# Altium footprint library FPGA_breakout_board_v1.PcbLib: 33 footprints (part 1 of 3)
Each footprint in its own frame and in the unit in brackets; x right, y up, seen from the top. Pads: shape width x height; smd on the part's side, far side on the other; paste and mask are expansions set on the pad; w line width, h text height; cw(c..) or ccw(c..) is an arc to the next point about the centre after c.
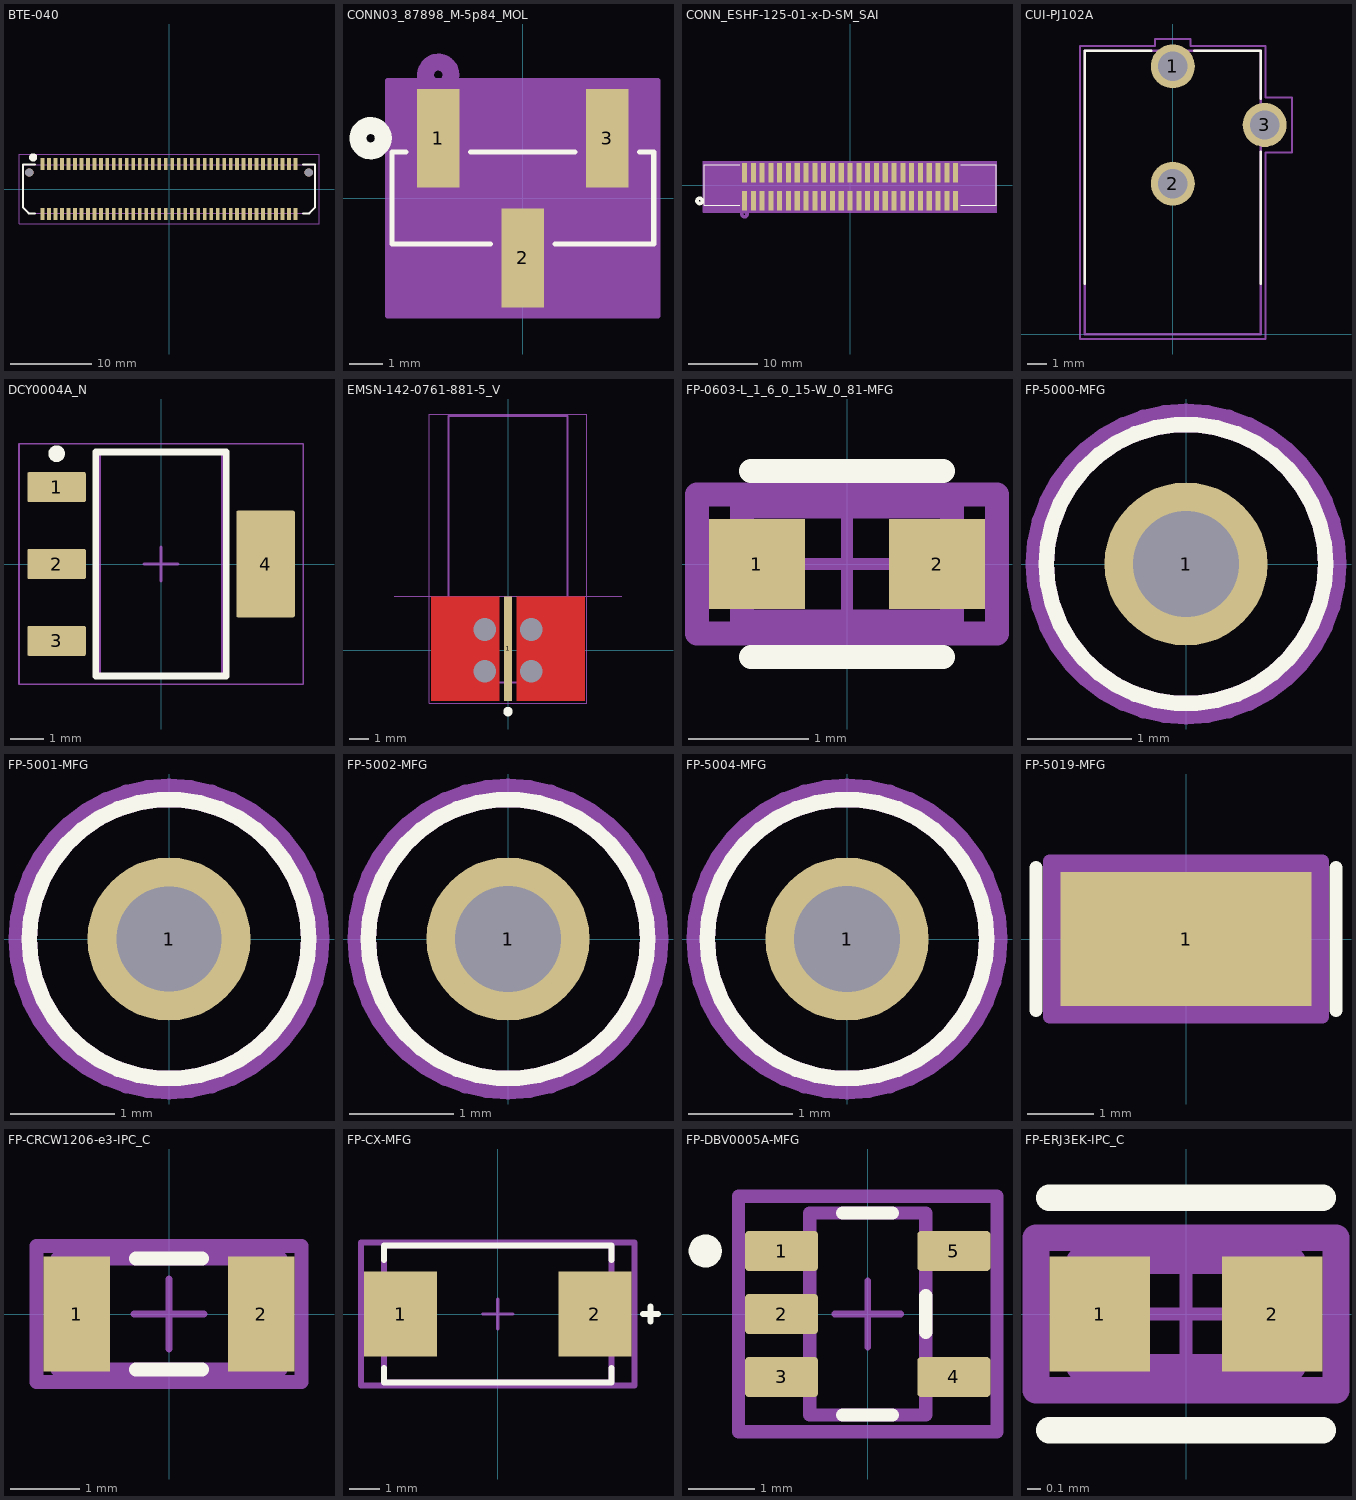
[diagram p0: the footprints below, top view; thin cyan lines are the x and y axes]

## BTE-040 [mm]
pads (82):
  rect 0.46x1.45 smd: 1(-15.6,3.085) 2(-15.6,-3.085) 3(-14.8,3.085) 4(-14.8,-3.085) 5(-14,3.085) 6(-14,-3.085) 7(-13.2,3.085) 8(-13.2,-3.085) 9(-12.4,3.085) 10(-12.4,-3.085) 11(-11.6,3.085) 12(-11.6,-3.085) 13(-10.8,3.085) 14(-10.8,-3.085) 15(-10,3.085) 16(-10,-3.085) 17(-9.2,3.085) 18(-9.2,-3.085) 19(-8.4,3.085) 20(-8.4,-3.085) 21(-7.6,3.085) 22(-7.6,-3.085) 23(-6.8,3.085) 24(-6.8,-3.085) 25(-6,3.085) 26(-6,-3.085) 27(-5.2,3.085) 28(-5.2,-3.085) 29(-4.4,3.085) 30(-4.4,-3.085) 31(-3.6,3.085) 32(-3.6,-3.085) 33(-2.8,3.085) 34(-2.8,-3.085) 35(-2,3.085) 36(-2,-3.085) 37(-1.2,3.085) 38(-1.2,-3.085) 39(-0.4,3.085) 40(-0.4,-3.085) 41(0.4,3.085) 42(0.4,-3.085) 43(1.2,3.085) 44(1.2,-3.085) 45(2,3.085) 46(2,-3.085) 47(2.8,3.085) 48(2.8,-3.085) 49(3.6,3.085) 50(3.6,-3.085) 51(4.4,3.085) 52(4.4,-3.085) 53(5.2,3.085) 54(5.2,-3.085) 55(6,3.085) 56(6,-3.085) 57(6.8,3.085) 58(6.8,-3.085) 59(7.6,3.085) 60(7.6,-3.085) 61(8.4,3.085) 62(8.4,-3.085) 63(9.2,3.085) 64(9.2,-3.085) 65(10,3.085) 66(10,-3.085) 67(10.8,3.085) 68(10.8,-3.085) 69(11.6,3.085) 70(11.6,-3.085) 71(12.4,3.085) 72(12.4,-3.085) 73(13.2,3.085) 74(13.2,-3.085) 75(14,3.085) 76(14,-3.085) 77(14.8,3.085) 78(14.8,-3.085) 79(15.6,3.085) 80(15.6,-3.085)
  round 1.02 hole 1.02: 81(-17.235,2.035) 82(17.235,2.035)
Top Overlay:
  circle w0.5: c-16.75,3.9 r0.25
  lines w0.254: -16.5,-3 -17.3,-3 -18,-2.3 -18,3 -16.5,3 ; 16.5,-3 17.3,-3 18,-2.3 18,3 16.5,3
Top Courtyard:
  lines w0.12: -18.5,-4.3 -18.5,4.3 18.5,4.3 18.5,-4.3 -18.5,-4.3
Mechanical 29:
  lines w0.127: -18,-2.25 -18,3 18,3 18,-2.25 17.25,-3 -17.25,-3 -18,-2.25
  text ".Designator" at -3.666,-0.494 h1.27
3D body "BTE-040-01-F-D-A.stp": height 4.27, standoff -0.75, extent -18.034,-3.556 17.971,3.556

## CONN03_87898_M-5p84_MOL [mil]
pads (3):
  rect 50x117 smd paste+0 mask+0: 1(-100,70.86) 2(0,-70.87) 3(100,70.86)
Top Overlay:
  circle w20: c-180,70.86 r15
  lines w6: -138.1,54.5 -155,54.5 -155,-54.5 -38.1,-54.5 ; -61.9,54.5 61.9,54.5 ; 38.1,-54.5 155,-54.5 155,54.5 138.1,54.5
Bottom Overlay:
  circle w20: c-180,70.86 r15
Top 3D Body:
  circle w20: c-100,145.86 r15
  lines w1: -150,-49.5 150,-49.5 150,49.5 -150,49.5 -150,-49.5
Top Courtyard:
  region: 160,139.36 -160,139.36 -160,-139.37 160,-139.37
  lines w6: -160,-139.37 -160,139.36 160,139.36 160,-139.37 -160,-139.37

## CONN_ESHF-125-01-x-D-SM_SAI [mil]
pads (50):
  rect 29x110 smd paste+0 mask+0: 1(-600,-90) 2(-600,70) 3(-550,-90) 4(-550,70) 5(-500,-90) 6(-500,70) 7(-450,-90) 8(-450,70) 9(-400,-90) 10(-400,70) 11(-350,-90) 12(-350,70) 13(-300,-90) 14(-300,70) 15(-250,-90) 16(-250,70) 17(-200,-90) 18(-200,70) 19(-150,-90) 20(-150,70) 21(-100,-90) 22(-100,70) 23(-50,-90) 24(-50,70) 25(0,-90) 26(0,70) 27(50,-90) 28(50,70) 29(100,-90) 30(100,70) 31(150,-90) 32(150,70) 33(200,-90) 34(200,70) 35(250,-90) 36(250,70) 37(300,-90) 38(300,70) 39(350,-90) 40(350,70) 41(400,-90) 42(400,70) 43(450,-90) 44(450,70) 45(500,-90) 46(500,70) 47(550,-90) 48(550,70) 49(600,-90) 50(600,70)
Top Overlay:
  circle w20: c-855,-90 r15
  lines w6: -627.6,-115 -830,-115 -830,115 -627.6,115 ; 627.6,-115 830,-115 830,115 627.6,115
Bottom Overlay:
  circle w20: c-855,-90 r15
Top 3D Body:
  circle w20: c-600,-165 r15
  lines w1: -825,-110 -825,110 575,110 575,-110 -825,-110
Top Courtyard:
  region: 835,135 -835,135 -835,-155 835,-155
  lines w6: -835,-155 835,-155 835,135 -835,135 -835,-155
3D body "ESHF-125-01-L-D-SM.stp": height 215, standoff 0, extent -825,-128 825,112

## CUI-PJ102A [mm]
pads (3):
  round 2.25 hole 1.5: 1(0,13.7) 2(0,7.7) 3(4.7,10.7)
Top Overlay:
  lines w0.12: -4.5,2.584 -4.5,14.5 -1.1,14.5 ; 1.1,14.5 4.5,14.5 4.5,12.04 ; 4.5,2.584 4.5,9.33
Top Courtyard:
  lines w0.1: -4.75,-0.25 -4.75,14.75 -0.9,14.75 -0.9,15.1 0.9,15.1 0.9,14.75 4.75,14.75 4.75,12.1 6.1,12.1 6.1,9.3 4.75,9.3 4.75,-0.25 -4.75,-0.25
Mechanical 29:
  lines w0.127: -4.5,0 -4.5,14.5 4.5,14.5 4.5,0 -4.5,0
  text ".Designator" at -3,7 h1.27

## DCY0004A_N [mm]
pads (4):
  rrect11% 1.75x0.9 smd: 1(-3.125,2.3) 2(-3.125,0) 3(-3.125,-2.3)
  rrect6% 1.75x3.2 smd: 4(3.125,0)
Top Overlay:
  circle w0.25: c-3.125,3.3 r0.125
  lines w0.2: -1.95,-3.35 -1.95,3.35 1.95,3.35 1.95,-3.35 -1.95,-3.35
Mechanical 1:
  text ".Designator" at -1.651,-0.254 h0.8
Top 3D Body:
  lines w0.1: -1.85,-3.35 -1.85,3.35 1.85,3.35 1.85,-3.35 -1.85,-3.35
Top Courtyard:
  lines w0.05: -4.25,-3.6 -4.25,3.6 4.25,3.6 4.25,-3.6 -4.25,-3.6
  lines w0.1: -0.5,0 0.5,0 ; 0,-0.5 0,0.5
3D body "SOT-223.stp": height 1.62, standoff -0.03, extent -3.5,-3.25 3.5,3.25

## EMSN-142-0761-881-5_V [mil]
pads (5):
  rect 16x218 smd: 1(0,3.46)
  round 0 hole 47: 2(-48,43.5) 3(48,43.5) 4(-48,-43.5) 5(48,-43.5)
Top Layer:
  rectangle: 18,-105.55 160,112.46
  region: -18,112.5 -160,112.5 -160,-105.5 -18,-105.5
Top Overlay:
  circle w9.84: c0,-127.2 r4.92
Mechanical 6:
  lines w1.97: -236.22,112.48 236.22,112.48
  text "BOARD EDGE" at -355,120 h11.81
  text "16 mil reference trace for CPW line" at 20,-135 h19.68
Top 3D Body:
  lines w3.94: 123.5,-66.49 -123.5,-66.49 -123.5,487.31 123.5,487.31 123.5,-62.99
Top Courtyard:
  lines w1.97: -163.94,-109.49 -163.94,491.26 163.94,491.26 163.94,-109.49 -163.94,-109.49
3D body "shenma.STEP": height 128.43, standoff -118.43, extent -123.42,-66.49 123.43,487.31

## FP-0603-L_1_6_0_15-W_0_81-MFG [mm]
pads (2):
  rect 0.8x0.75 smd paste+0 mask+0: 1(-0.75,0) 2(0.75,0)
Top Overlay:
  lines w0.2: -0.8,-0.775 0.8,-0.775 ; -0.8,0.775 0.8,0.775
Top Assembly:
  lines w0.2: -1.25,-0.58 1.25,-0.58 1.25,0.58 -1.25,0.58 -1.25,-0.58
  text ".Designator" at 0,0.188 h1
Top 3D Body:
  lines w0.2: -0.875,-0.48 0.875,-0.48 0.875,0.48 -0.875,0.48 -0.875,-0.48
Top Courtyard:
  lines w0.2: -1.25,-0.58 1.25,-0.58 1.25,0.58 -1.25,0.58 -1.25,-0.58
Top Component Center:
  lines w0.1: -0.5,0 0.5,0 ; 0,-0.5 0,0.5
3D body "Cap_AVX_0603YA0R5BAT2A_eec.STEP": height 0.25, standoff 0, extent -1.25,-0.58 1.25,0.58

## FP-5000-MFG [mm]
pads (1):
  round 1.57 hole 1.02 paste-2539.97 mask+0: 1(0,0)
Top Overlay:
  circle w0.15: c0,0 r1.345
Top 3D Body:
  circle w0.15: c0,0 r1.345
Top Courtyard:
  lines w0.2: -1.445,0 cw(c0,0) 1.445,0 cw(c0,0) -1.445,0
Top Component Center:
  lines w0.1: -0.5,0 0.5,0 ; 0,-0.5 0,0.5
3D body "Conn_Keystone_5000_eec.STEP": height 0.25, standoff 0, extent -1.445,-1.445 1.445,1.445

## FP-5001-MFG [mm]
pads (1):
  round 1.57 hole 1.016 paste-2539.97 mask+0: 1(0,0)
Top Overlay:
  circle w0.15: c0,0 r1.345
Top 3D Body:
  circle w0.15: c0,0 r1.345
Top Courtyard:
  lines w0.2: -1.445,0 cw(c0,0) 1.445,0 cw(c0,0) -1.445,0
Top Component Center:
  lines w0.1: -0.5,0 0.5,0 ; 0,-0.5 0,0.5
3D body "Conn_Keystone_5001_eec.STEP": height 0.25, standoff 0, extent -1.445,-1.445 1.445,1.445

## FP-5002-MFG [mm]
pads (1):
  round 1.57 hole 1.02 paste-2539.97 mask+0: 1(0,0)
Top Overlay:
  circle w0.15: c0,0 r1.345
Top 3D Body:
  circle w0.15: c0,0 r1.345
Top Courtyard:
  lines w0.2: -1.445,0 cw(c0,0) 1.445,0 cw(c0,0) -1.445,0
Top Component Center:
  lines w0.1: -0.433,0 0.433,0 ; 0,-0.433 0,0.433
3D body "Conn_Keystone_5002_eec.STEP": height 0.25, standoff 0, extent -1.445,-1.445 1.445,1.445

## FP-5004-MFG [mm]
pads (1):
  round 1.57 hole 1.02 paste-2539.97 mask+0: 1(0,0)
Top Overlay:
  circle w0.15: c0,0 r1.345
Top 3D Body:
  circle w0.15: c0,0 r1.345
Top Courtyard:
  lines w0.2: -1.445,0 cw(c0,0) 1.445,0 cw(c0,0) -1.445,0
Top Component Center:
  lines w0.1: -0.5,0 0.5,0 ; 0,-0.5 0,0.5
3D body "Conn_Keystone_5004_eec.STEP": height 0.25, standoff 0, extent -1.445,-1.445 1.445,1.445

## FP-5019-MFG [mm]
pads (1):
  rect 3.8x2.03 smd paste+0 mask+0: 1(0,0)
Top Overlay:
  lines w0.2: -2.275,-1.08 -2.275,1.08 ; 2.275,-1.08 2.275,1.08
Top Assembly:
  lines w0.2: -2.07,-1.18 2.07,-1.18 2.07,1.18 -2.07,1.18 -2.07,-1.18
  text ".Designator" at 0,0.188 h1
Top 3D Body:
  lines w0.2: -1.97,-1.08 1.97,-1.08 1.97,1.08 -1.97,1.08 -1.97,-1.08
Top Courtyard:
  lines w0.2: -2.07,-1.18 2.07,-1.18 2.07,1.18 -2.07,1.18 -2.07,-1.18
Top Component Center:
  lines w0.1: -0.5,0 0.5,0 ; 0,-0.5 0,0.5

## FP-CRCW1206-e3-IPC_C [mm]
pads (2):
  rect 0.956x1.658 smd paste+0 mask+0: 1(-1.326,0) 2(1.326,0)
Top Overlay:
  lines w0.2: -0.473,-0.8 0.473,-0.8 ; -0.473,0.8 0.473,0.8
Top Assembly:
  lines w0.2: -1.904,-0.975 1.904,-0.975 1.904,0.975 -1.904,0.975 -1.904,-0.975
  text ".Designator" at 0,0.188 h1
Top 3D Body:
  lines w0.2: -1.6,-0.8 1.6,-0.8 1.6,0.8 -1.6,0.8 -1.6,-0.8
Top Courtyard:
  lines w0.2: -1.904,-0.975 1.904,-0.975 1.904,0.975 -1.904,0.975 -1.904,-0.975
Top Component Center:
  lines w0.1: -0.5,0 0.5,0 ; 0,-0.5 0,0.5
3D body "Res_Vishay_CRCW1206619RFKEB_eec.STEP": height 0.25, standoff 0, extent -1.904,-0.975 1.904,0.975

## FP-CX-MFG [mm]
pads (2):
  rect 2.4x2.8 smd paste+0 mask+0: 1(-3.2,0) 2(3.2,0)
Top Overlay:
  lines w0.2: -3.75,-1.775 -3.75,-2.25 3.75,-2.25 3.75,-1.775 ; -3.75,1.775 -3.75,2.25 3.75,2.25 3.75,1.775 ; 4.775,0 5.275,0 ; 5.025,-0.25 5.025,0.25
Top Assembly:
  lines w0.2: -4.5,-2.35 4.5,-2.35 4.5,2.35 -4.5,2.35 -4.5,-2.35
Top 3D Body:
  lines w0.2: -3.75,-2.25 3.75,-2.25 3.75,2.25 -3.75,2.25 -3.75,-2.25
Top Courtyard:
  lines w0.2: -4.5,-2.35 4.5,-2.35 4.5,2.35 -4.5,2.35 -4.5,-2.35
Top Component Center:
  lines w0.1: -0.5,0 0.5,0 ; 0,-0.5 0,0.5
3D body "Cap_Panasonic_Electronic_Components_EEF-CX0J101R_eec.STEP": height 0.25, standoff 0, extent -4.5,-2.35 4.5,2.35

## FP-DBV0005A-MFG [mm]
pads (5):
  rrect17% 1.1x0.6 smd paste+0 mask+0: 1(-1.3,0.95) 2(-1.3,0) 3(-1.3,-0.95) 4(1.3,-0.95) 5(1.3,0.95)
Top Overlay:
  circle w0.25: c-2.45,0.95 r0.125
  lines w0.2: -0.375,-1.525 0.375,-1.525 ; -0.375,1.525 0.375,1.525 ; 0.875,-0.275 0.875,0.275
Top Assembly:
  lines w0.2: -1.95,-1.775 1.95,-1.775 1.95,1.775 -1.95,1.775 -1.95,-1.775
Top 3D Body:
  lines w0.2: -0.875,-1.525 0.875,-1.525 0.875,1.525 -0.875,1.525 -0.875,-1.525
Top Courtyard:
  lines w0.2: -1.95,-1.775 1.95,-1.775 1.95,1.775 -1.95,1.775 -1.95,-1.775
Top Component Center:
  lines w0.1: -0.5,0 0.5,0 ; 0,-0.5 0,0.5
3D body "IC_Texas_Instruments_SN65LVDT2DBVT_eec.STEP": height 0.25, standoff 0, extent -1.95,-1.775 1.95,1.775

## FP-ERJ3EK-IPC_C [mm]
pads (2):
  rect 0.757x0.862 smd paste+0 mask+0: 1(-0.651,0) 2(0.651,0)
Top Overlay:
  lines w0.2: -1.029,-0.875 1.029,-0.875 ; -1.029,0.875 1.029,0.875
Top Assembly:
  lines w0.2: -1.129,-0.575 1.129,-0.575 1.129,0.575 -1.129,0.575 -1.129,-0.575
  text ".Designator" at 0,0.188 h1
Top 3D Body:
  lines w0.2: -0.8,-0.4 0.8,-0.4 0.8,0.4 -0.8,0.4 -0.8,-0.4
Top Courtyard:
  lines w0.2: -1.129,-0.575 1.129,-0.575 1.129,0.575 -1.129,0.575 -1.129,-0.575
Top Component Center:
  lines w0.1: -0.5,0 0.5,0 ; 0,-0.5 0,0.5
3D body "Res_Panasonic_ERJ-3EKF12R0V_eec.STEP": height 0.25, standoff 0, extent -1.129,-0.575 1.129,0.575